# Altium schematic symbol library 7.6mm_Buzzer_THT.SchLib: 1 symbol
Pins are listed as number, name and electrical type; pins without a type are passive.

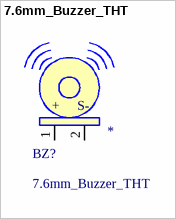
[diagram p0: symbol 7.6mm_Buzzer_THT]

## 7.6mm_Buzzer_THT
designator BZ?
7.6mm_Buzzer_THT - 5v; LCSC: *
footprint 7.6mm_Buzzer_THT
pins: 1 +, 2 S-